# EAGLE library part 2420-6 (library con-2420)
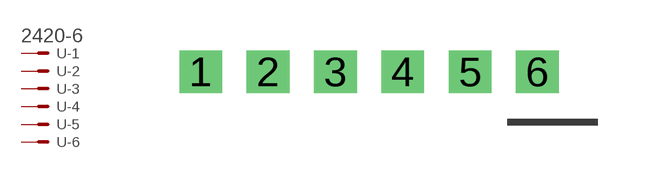
[diagram p0: symbol with the pads of 2420-6-H; footprint 2420-6-H]

Designator prefix -; gates -1=MV -2=M -3=M -4=M -5=M -6=M

## 2420-6  [2420-6-H]
1  -1:>NAME$
2  -2:>NAME$
3  -3:>NAME$
4  -4:>NAME$
5  -5:>NAME$
6  -6:>NAME$

## Footprint 2420-6-H (pad centres in mm)
drill 0.508 pad 1.27 square: 1 -5,0; 2 -3,0; 3 -1,0; 4 1,0; 5 3,0
drill 0.564 pad 1.27 square: 6 5,0